# EAGLE library part PCA9306DCTT (library PCA9306DCTT)
Check prices <https://pricing.snapeda.com/parts/PCA9306DCTT/Texas%20Instruments/view-part?ref=eda>
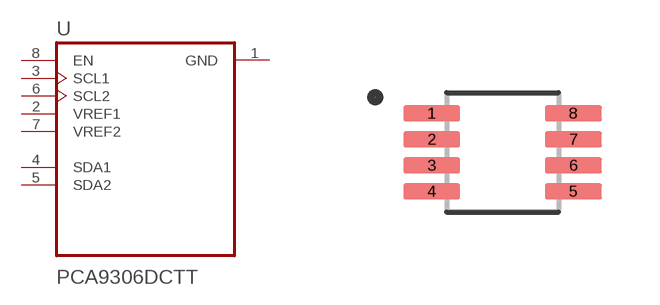
[diagram p0: symbol with the pads of SOP65P400X130-8N; footprint SOP65P400X130-8N]

Designator prefix U

## PCA9306DCTT (Availability: Good; Description: 2-bit bidirectional I2C bus and SMBus voltage-level shifter 8-SM8 -40 to 85; MF: Texas Instruments; MP: PCA9306DCTT; Package: SSOP-8 Texas Instruments; Price: None; Purchase-URL: https://pricing.snapeda.com/search/part/PCA9306DCTT/?ref=eda)  [SOP65P400X130-8N]
1  GND  pwr
2  VREF1  in
3  SCL1  in
4  SDA1
5  SDA2
6  SCL2  in
7  VREF2  in
8  EN  in

## Footprint SOP65P400X130-8N (pad centres in mm)
smd 1.42 x 0.4: 1 -1.77,0.975; 2 -1.77,0.325; 3 -1.77,-0.325; 4 -1.77,-0.975; 5 1.77,-0.975; 6 1.77,-0.325; 7 1.77,0.325; 8 1.77,0.975